# Altium schematic symbol library TS971IDT.SchLib: 1 symbol
Pins are listed as number, name and electrical type; pins without a type are passive.

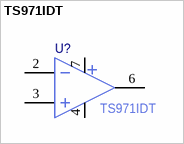
[diagram p0: symbol TS971IDT]

## TS971IDT
designator U?  Manufacturer Part Number: TS971IDT  (hidden comment: *)
pins: 2 IN-, 3 IN+, 4 GND (power), 6 OUT, 7 VDD (power)